# Altium footprint library EMW3165.PcbLib: 1 footprints
Each footprint in its own frame and in the unit in brackets; x right, y up, seen from the top. Pads: shape width x height; smd on the part's side, far side on the other; paste and mask are expansions set on the pad; w line width, h text height; cw(c..) or ccw(c..) is an arc to the next point about the centre after c.
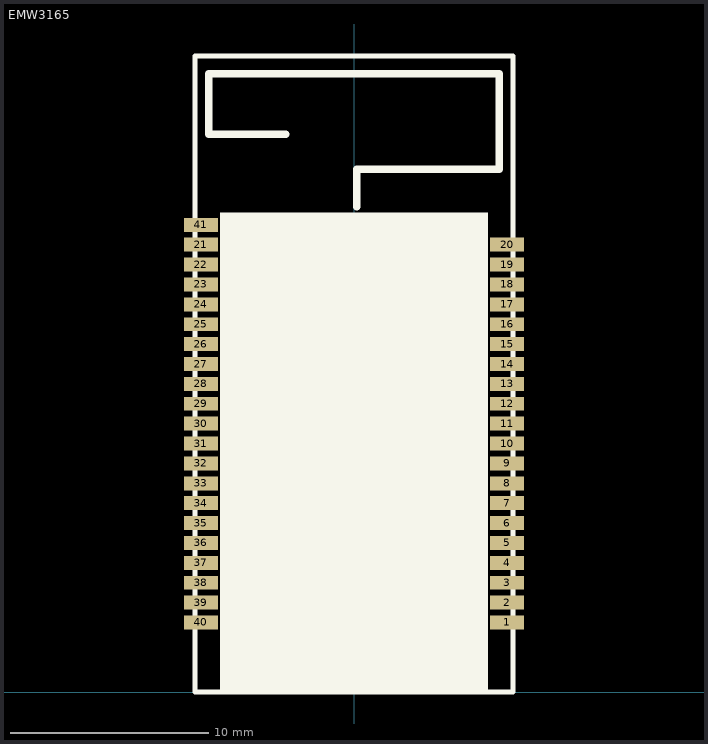
[diagram p0: the footprint, top view; thin cyan lines are the x and y axes]

## EMW3165 [mm]
pads (41):
  rect 1.7x0.7 smd: 1(7.699,3.505) 2(7.699,4.505) 3(7.699,5.505) 4(7.699,6.505) 5(7.699,7.505) 6(7.699,8.505) 7(7.699,9.505) 8(7.699,10.505) 9(7.699,11.505) 10(7.699,12.505) 11(7.699,13.505) 12(7.699,14.505) 13(7.699,15.505) 14(7.699,16.505) 15(7.699,17.505) 16(7.699,18.505) 17(7.699,19.505) 18(7.699,20.505) 19(7.699,21.505) 20(7.699,22.505) 21(-7.701,22.505) 22(-7.701,21.505) 23(-7.701,20.505) 24(-7.701,19.505) 25(-7.701,18.505) 26(-7.701,17.505) 27(-7.701,16.505) 28(-7.701,15.505) 29(-7.701,14.505) 30(-7.701,13.505) 31(-7.701,12.505) 32(-7.701,11.505) 33(-7.701,10.505) 34(-7.701,9.505) 35(-7.701,8.505) 36(-7.701,7.505) 37(-7.701,6.505) 38(-7.701,5.505) 39(-7.701,4.505) 40(-7.701,3.505) 41(-7.701,23.505)
Top Overlay:
  rectangle: -6.731,0 6.731,24.13
  lines w0.254: -8.001,0.005 -8.001,32.005 7.999,32.005 7.999,28.005 7.999,0.005 -8.001,0.005
  lines w0.381: -3.429,28.067 -7.301,28.067 -7.301,31.105 7.299,31.105 7.299,26.305 0.127,26.305 0.127,24.405
3D body: height 1, standoff 0, extent -8.001,0.076 7.874,31.826
3D body: height 3, standoff 1, extent -7.366,0.33 7.366,22.047
3D body: height 1, standoff 0, extent -8.002,23.165 -7.672,23.851
3D body: height 1, standoff 0, extent -8.002,22.161 -7.672,22.847
3D body: height 1, standoff 0, extent -8.002,21.158 -7.672,21.844
3D body: height 1, standoff 0, extent -8.002,19.164 -7.672,19.85
3D body: height 1, standoff 0, extent -8.002,20.168 -7.672,20.853
3D body: height 1, standoff 0, extent -8.002,17.158 -7.672,17.844
3D body: height 1, standoff 0, extent -8.002,18.161 -7.672,18.847
3D body: height 1, standoff 0, extent -8.002,11.163 -7.672,11.849
3D body: height 1, standoff 0, extent -8.002,10.16 -7.672,10.846
3D body: height 1, standoff 0, extent -8.002,13.17 -7.672,13.856
3D body: height 1, standoff 0, extent -8.002,12.167 -7.672,12.853
3D body: height 1, standoff 0, extent -8.002,14.16 -7.672,14.846
3D body: height 1, standoff 0, extent -8.002,15.164 -7.672,15.85
3D body: height 1, standoff 0, extent -8.002,16.167 -7.672,16.853
3D body: height 1, standoff 0, extent -8.002,4.166 -7.672,4.852
3D body: height 1, standoff 0, extent -8.002,3.162 -7.672,3.848
3D body: height 1, standoff 0, extent -8.002,6.172 -7.672,6.858
3D body: height 1, standoff 0, extent -8.002,5.169 -7.672,5.855
3D body: height 1, standoff 0, extent -8.002,7.163 -7.672,7.849
3D body: height 1, standoff 0, extent -8.002,8.166 -7.672,8.852
3D body: height 1, standoff 0, extent -8.002,9.169 -7.672,9.855
3D body: height 1, standoff 0, extent 7.545,16.157 7.875,16.843
3D body: height 1, standoff 0, extent 7.545,17.161 7.875,17.847
3D body: height 1, standoff 0, extent 7.545,18.164 7.875,18.85
3D body: height 1, standoff 0, extent 7.545,20.158 7.875,20.844
3D body: height 1, standoff 0, extent 7.545,19.155 7.875,19.841
3D body: height 1, standoff 0, extent 7.545,22.165 7.875,22.85
3D body: height 1, standoff 0, extent 7.545,21.161 7.875,21.847
3D body: height 1, standoff 0, extent 7.545,9.16 7.875,9.846
3D body: height 1, standoff 0, extent 7.545,10.163 7.875,10.849
3D body: height 1, standoff 0, extent 7.545,11.166 7.875,11.852
3D body: height 1, standoff 0, extent 7.545,13.16 7.875,13.846
3D body: height 1, standoff 0, extent 7.545,12.157 7.875,12.843
3D body: height 1, standoff 0, extent 7.545,15.167 7.875,15.853
3D body: height 1, standoff 0, extent 7.545,14.164 7.875,14.85
3D body: height 1, standoff 0, extent 7.545,7.166 7.875,7.852
3D body: height 1, standoff 0, extent 7.545,8.169 7.875,8.855
3D body: height 1, standoff 0, extent 7.545,5.159 7.875,5.845
3D body: height 1, standoff 0, extent 7.545,6.163 7.875,6.849
3D body: height 1, standoff 0, extent 7.545,4.169 7.875,4.855
3D body: height 1, standoff 0, extent 7.545,3.165 7.875,3.851
3D body: height 1.01, standoff 1, extent -7.595,24.018 7.443,31.344
3D body "SW3dPS-U.FL-R-SMT-1.STEP": height 2.25, standoff 0.99, extent 2.971,20.98 6.071,23.981